# EAGLE library part 9523-MODEL (library Iridium-9523)
Molex 54102-0404
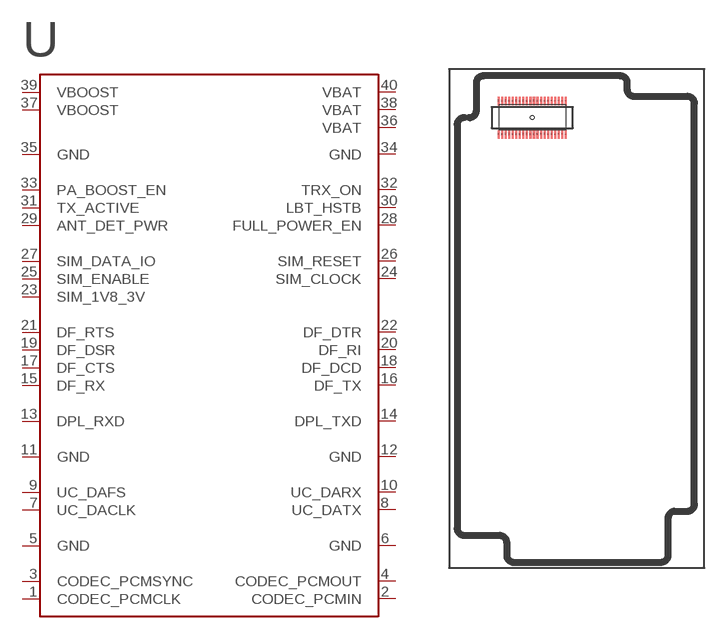
[diagram p0: symbol with the pads of 9523-MODEL; footprint 9523-MODEL]

Designator prefix U

## 9523-MODEL  [9523-MODEL]
1  CODEC_PCMCLK
2  CODEC_PCMIN
3  CODEC_PCMSYNC
4  CODEC_PCMOUT
5  GND
6  GND
7  UC_DACLK
8  UC_DATX
9  UC_DAFS
10  UC_DARX
11  GND
12  GND
13  DPL_RXD
14  DPL_TXD
15  DF_RX
16  DF_TX
17  DF_CTS
18  DF_DCD
19  DF_DSR
20  DF_RI
21  DF_RTS
22  DF_DTR
23  SIM_1V8_3V
24  SIM_CLOCK
25  SIM_ENABLE
26  SIM_RESET
27  SIM_DATA_IO
28  FULL_POWER_EN
29  ANT_DET_PWR
30  LBT_HSTB
31  TX_ACTIVE
32  TRX_ON
33  PA_BOOST_EN
34  GND
35  GND
36  VBAT
37  VBOOST
38  VBAT
39  VBOOST
40  VBAT

## Footprint 9523-MODEL (pad centres in mm)
Molex 53885-0408
smd 0.3 x 1.2: 1 4.75,2.35; 2 4.75,-2.35; 3 4.25,2.35; 4 4.25,-2.35; 5 3.75,2.35; 6 3.75,-2.35; 7 3.25,2.35; 8 3.25,-2.35; 9 2.75,2.35; 10 2.75,-2.35; 11 2.25,2.35; 12 2.25,-2.35; 13 1.75,2.35; 14 1.75,-2.35; 15 1.25,2.35; 16 1.25,-2.35; 17 0.75,2.35; 18 0.75,-2.35; 19 0.25,2.35; 20 0.25,-2.35; 21 -0.25,2.35; 22 -0.25,-2.35; 23 -0.75,2.35; 24 -0.75,-2.35; 25 -1.25,2.35; 26 -1.25,-2.35; 27 -1.75,2.35; 28 -1.75,-2.35; 29 -2.25,2.35; 30 -2.25,-2.35; 31 -2.75,2.35; 32 -2.75,-2.35; 33 -3.25,2.35; 34 -3.25,-2.35; 35 -3.75,2.35; 36 -3.75,-2.35; 37 -4.25,2.35; 38 -4.25,-2.35; 39 -4.75,2.35; 40 -4.75,-2.35